# EAGLE library part MIC23159 (library Microchip)
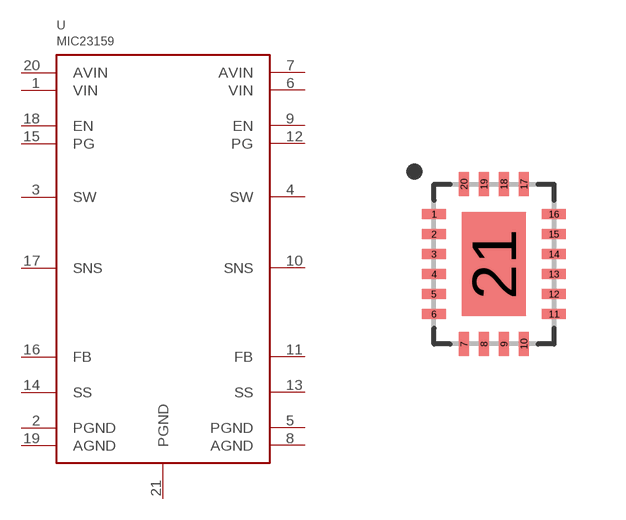
[diagram p30: symbol with the pads of VQFN20; footprint VQFN20]

Designator prefix U

## MIC23159  [VQFN20]
1  VIN
2  PGND
3  SW
4  SW
5  PGND
6  VIN
7  AVIN
8  AGND
9  EN
10  SNS
11  FB
12  PG
13  SS
14  SS
15  PG
16  FB
17  SNS
18  EN
19  AGND
20  AVIN
21  PGND

## Footprint VQFN20 (pad centres in mm)
smd 0.6 x 0.25: 1 -1.5,1.25; 2 -1.5,0.75; 3 -1.5,0.25; 4 -1.5,-0.25; 5 -1.5,-0.75; 6 -1.5,-1.25; 11 1.5,-1.25; 12 1.5,-0.75; 13 1.5,-0.25; 14 1.5,0.25; 15 1.5,0.75; 16 1.5,1.25
smd 0.25 x 0.6: 7 -0.75,-2; 8 -0.25,-2; 9 0.25,-2; 10 0.75,-2; 17 0.75,2; 18 0.25,2; 19 -0.25,2; 20 -0.75,2
smd 1.6 x 2.6: 21 0,0